# Altium schematic symbol library Super_Hornet.SchLib: 120 symbols (part 4 of 5)
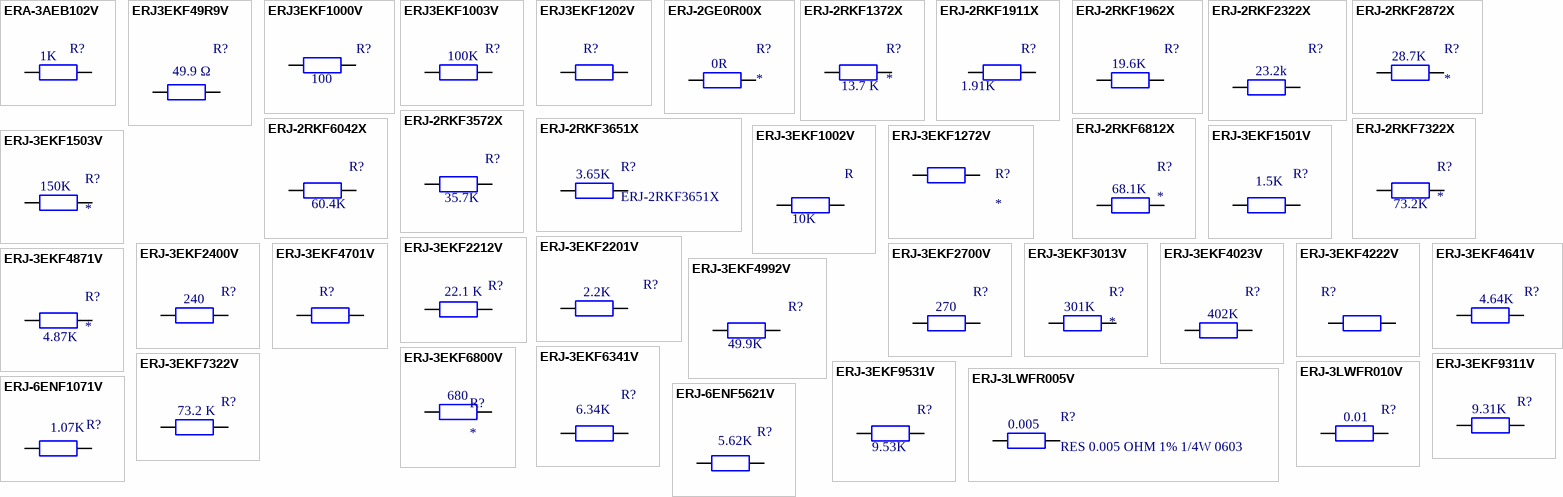
[diagram p9: symbols ERA-3AEB102V to ERJ-6ENF5621V]

## ERJ-3EKF7322V
designator R?, comment Resistance: 73.2 K  (hidden comment: RES SMD 73.2K OHM 1% 1/10W 0603)
Manufacturer: Panasonic; Manufacturer Part Number: ERJ-3EKF7322V; Rated Power: 0.1 W; Temp Coefficient: ±100 ppm/°C; Supplier 1: Digi-Key; Stock 1: 333532; Pricing 1: 1=0.1, 10=0.052, 100=0.0214, 1000=0.0096, 2500=0.0083 (USD); Size Code: 0603; Tolerance (%): ±1 %; ComponentLink1URL: http://industrial.panasonic.com/www-data/pdf/AOA0000/AOA0000CE2.pdf?src-supplier=Avnet; ComponentLink1Description: http://industrial.panasonic.com/www-data/pdf/AOA0000/AOA0000CE2.pdf?src-supplier=Avnet; ComponentLink2URL: https://www.alliedelec.com/m/d/623f45ff1957d936ff56d46fd1c28cac.pdf?src-supplier=Allied+Electronics; ComponentLink2Description: https://www.alliedelec.com/m/d/623f45ff1957d936ff56d46fd1c28cac.pdf?src-supplier=Allied+Electronics; ComponentLink3URL: http://www.farnell.com/datasheets/1911175.pdf?src-supplier=Element14; ComponentLink3Description: http://www.farnell.com/datasheets/1911175.pdf?src-supplier=Element14; ComponentLink4URL: http://industrial.panasonic.com/www-data/pdf/AOA0000/AOA0000CE2.pdf?src-supplier=Avnet+Europe; ComponentLink4Description: http://industrial.panasonic.com/www-data/pdf/AOA0000/AOA0000CE2.pdf?src-supplier=Avnet+Europe; ComponentLink5URL: http://www.mouser.com/ds/2/315/AOA0000C283-1093288.pdf?src-supplier=Mouser; ComponentLink5Description: http://www.mouser.com/ds/2/315/AOA0000C283-1093288.pdf?src-supplier=Mouser; ComponentLink6URL: https://www.verical.com/server-webapp/html/getDatasheet?partID=248021&src-supplier=Verical; ComponentLink6Description: https://www.verical.com/server-webapp/html/getDatasheet?partID=248021&src-supplier=Verical; ComponentLink7URL: http://industrial.panasonic.com/www-data/pdf/AOA0000/AOA0000CE2.pdf?src-supplier=Future+Electronics; ComponentLink7Description: http://industrial.panasonic.com/www-data/pdf/AOA0000/AOA0000CE2.pdf?src-supplier=Future+Electronics; Supplier Part Number 1: P73.2KHCT-ND
footprint R0603
pins: 1, 2

## ERJ-3EKF9311V
designator R?  Resistance: 9.31K  (hidden comment: *)
RES SMD 9.31K OHM 1% 1/10W 0603; Manufacturer: Panasonic; Manufacturer Part Number: ERJ-3EKF9311V; Rated Power: 0.1 W; Temp Coefficient: ±100 ppm/°C; Supplier 1: Digi-Key; Stock 1: 98740; Pricing 1: 1=0.1, 10=0.062, 100=0.0253, 1000=0.0113, 2500=0.0098 (USD); Size Code: 0603; Tolerance (%): ±1 %; ComponentLink1URL: http://industrial.panasonic.com/www-data/pdf/AOA0000/AOA0000CE2.pdf?src-supplier=Avnet; ComponentLink1Description: http://industrial.panasonic.com/www-data/pdf/AOA0000/AOA0000CE2.pdf?src-supplier=Avnet; ComponentLink2URL: http://www.farnell.com/datasheets/1678782.pdf?src-supplier=Element14; ComponentLink2Description: http://www.farnell.com/datasheets/1678782.pdf?src-supplier=Element14; ComponentLink3URL: http://industrial.panasonic.com/www-data/pdf/AOA0000/AOA0000CE2.pdf?src-supplier=Future+Electronics; ComponentLink3Description: http://industrial.panasonic.com/www-data/pdf/AOA0000/AOA0000CE2.pdf?src-supplier=Future+Electronics; ComponentLink4URL: http://industrial.panasonic.com/www-data/pdf/AOA0000/AOA0000CE2.pdf?src-supplier=Avnet+Asia; ComponentLink4Description: http://industrial.panasonic.com/www-data/pdf/AOA0000/AOA0000CE2.pdf?src-supplier=Avnet+Asia; ComponentLink5URL: http://www.farnell.com/datasheets/1911175.pdf?src-supplier=Farnell; ComponentLink5Description: http://www.farnell.com/datasheets/1911175.pdf?src-supplier=Farnell; ComponentLink6URL: https://www.alliedelec.com/m/d/623f45ff1957d936ff56d46fd1c28cac.pdf?src-supplier=Allied+Electronics; ComponentLink6Description: https://www.alliedelec.com/m/d/623f45ff1957d936ff56d46fd1c28cac.pdf?src-supplier=Allied+Electronics; ComponentLink7URL: http://industrial.panasonic.com/www-data/pdf/AOA0000/AOA0000CE2.pdf?src-supplier=Avnet+Europe; ComponentLink7Description: http://industrial.panasonic.com/www-data/pdf/AOA0000/AOA0000CE2.pdf?src-supplier=Avnet+Europe; ComponentLink8URL: http://www.mouser.com/ds/2/315/AOA0000CE2-37512.pdf?src-supplier=Mouser; ComponentLink8Description: http://www.mouser.com/ds/2/315/AOA0000CE2-37512.pdf?src-supplier=Mouser; ComponentLink9URL: http://www.farnell.com/datasheets/1911175.pdf?src-supplier=Element14; ComponentLink9Description: http://www.farnell.com/datasheets/1911175.pdf?src-supplier=Element14; Supplier Part Number 1: P9.31KHCT-ND
footprint R0603
pins: 1, 2

## ERJ-3EKF9531V
designator R?  Resistance (Ohms): 9.53K  (hidden comment: *)
RES SMD 9.53K OHM 1% 1/10W 0603; Manufacturer: Panasonic; Manufacturer Part Number: ERJ-3EKF9531V; EDA / CAD Models: Download from Accelerated Designs; Power (Watts): 0.1W, 1/10W; Temperature Coefficient: ±100ppm/°C; Online Catalog: ERJ Series; Kits: RSM3H-ND  - RES KIT 1K-9.76K 1/10W 4800PCS; Other Names: ERJ-3EKF9531 ERJ3EKF9531 P9.53KHCT; Supplier 1: Digi-Key; Stock 1: 49914; Pricing 1: 1=0.1, 10=0.042, 100=0.0169, 1000=0.0076, 2500=0.0066 (USD); Standard Package: 1; Category: Resistors; Family: Chip Resistor - Surface Mount; Series: ERJ; Packaging: Cut Tape (CT); Tolerance: ±1%; Composition: Thick Film; Features: Automotive AEC-Q200; Operating Temperature: -55°C ~ 155°C; Package / Case: 0603 (1608 Metric); Supplier Device Package: 0603; Size / Dimension: 0.063" L x 0.031" W (1.60mm x 0.80mm); Height: 0.022" (0.55mm); Number of Terminations: 2; ComponentLink1URL: http://www.farnell.com/datasheets/1678782.pdf?src-supplier=Element14; ComponentLink1Description: http://www.farnell.com/datasheets/1678782.pdf?src-supplier=Element14; ComponentLink2URL: http://industrial.panasonic.com/www-data/pdf/AOA0000/AOA0000CE2.pdf?src-supplier=Avnet+Asia; ComponentLink2Description: http://industrial.panasonic.com/www-data/pdf/AOA0000/AOA0000CE2.pdf?src-supplier=Avnet+Asia; ComponentLink3URL: http://www.farnell.com/datasheets/426256.pdf?src-supplier=Element14; ComponentLink3Description: http://www.farnell.com/datasheets/426256.pdf?src-supplier=Element14; ComponentLink4URL: http://www.farnell.com/datasheets/1911175.pdf?src-supplier=Farnell; ComponentLink4Description: http://www.farnell.com/datasheets/1911175.pdf?src-supplier=Farnell; ComponentLink5URL: https://www.alliedelec.com/m/d/623f45ff1957d936ff56d46fd1c28cac.pdf?src-supplier=Allied+Electronics; ComponentLink5Description: https://www.alliedelec.com/m/d/623f45ff1957d936ff56d46fd1c28cac.pdf?src-supplier=Allied+Electronics; ComponentLink6URL: http://industrial.panasonic.com/www-data/pdf/AOA0000/AOA0000CE2.pdf?src-supplier=Avnet; ComponentLink6Description: http://industrial.panasonic.com/www-data/pdf/AOA0000/AOA0000CE2.pdf?src-supplier=Avnet; Supplier Part Number 1: P9.53KHCT-ND
footprint R0603
pins: 1, 2

## ERJ-3LWFR005V
designator R?, comment RES 0.005 OHM 1% 1/4W 0603  Resistance (Ohms): 0.005
Manufacturer: Panasonic; Manufacturer Part Number: ERJ-3LWFR005V; Power (Watts): 0.25W, 1/4W; Temperature Coefficient: 0/ +700ppm/°C; Supplier 1: Digi-Key; Stock 1: 76322; Pricing 1: 1=0.51, 10=0.39, 25=0.2964, 50=0.2202, 100=0.1638, 250=0.1384, 500=0.1186, 1000=0.0904 (USD); Category: Resistors; Family: Chip Resistor - Surface Mount; Series: ERJ; Packaging: Tape & Reel (TR); Tolerance: ±1%; Composition: Thick Film; Features: Automotive AEC-Q200, Current Sense; Operating Temperature: -55°C ~ 125°C; Package / Case: 0603 (1608 Metric); Supplier Device Package: 0603; Size / Dimension: 0.063" L x 0.031" W (1.60mm x 0.80mm); Height: 0.026" (0.65mm); Number of Terminations: 2; ComponentLink1URL: http://www.mouser.com/ds/2/315/AOA0000C295-1109214.pdf?src-supplier=Mouser; ComponentLink1Description: http://www.mouser.com/ds/2/315/AOA0000C295-1109214.pdf?src-supplier=Mouser; ComponentLink2URL: https://industrial.panasonic.com/cdbs/www-data/pdf/RDN0000/AOA0000C313.pdf?src-supplier=Digi-Key; ComponentLink2Description: https://industrial.panasonic.com/cdbs/www-data/pdf/RDN0000/AOA0000C313.pdf?src-supplier=Digi-Key; ComponentLink3URL: http://www.farnell.com/datasheets/2631545.pdf?src-supplier=Farnell; ComponentLink3Description: http://www.farnell.com/datasheets/2631545.pdf?src-supplier=Farnell; ComponentLink4URL: http://www.farnell.com/datasheets/2631545.pdf?src-supplier=Newark; ComponentLink4Description: http://www.farnell.com/datasheets/2631545.pdf?src-supplier=Newark; Supplier Part Number 1: P19182CT-ND
footprint R0603
pins: 1, 2

## ERJ-3LWFR010V
designator R?  Resistance (Ohms): 0.01  (hidden comment: *)
RES SMD 0.01 OHM 1% 1/4W 0603; Manufacturer: Panasonic; Manufacturer Part Number: ERJ-3LWFR010V; Power (Watts): 0.25W, 1/4W; Temperature Coefficient: 0/ +300ppm/°C; Supplier 1: Digi-Key; Stock 1: 48216; Pricing 1: 1=0.48, 10=0.371, 100=0.156, 1000=0.0861, 2500=0.0807 (USD); Category: Resistors; Family: Chip Resistor - Surface Mount; Series: ERJ; Packaging: Tape & Reel (TR); Tolerance: ±1%; Composition: Thick Film; Features: Automotive AEC-Q200, Current Sense; Operating Temperature: -55°C ~ 125°C; Package / Case: 0603 (1608 Metric); Supplier Device Package: 0603; Size / Dimension: 0.063" L x 0.031" W (1.60mm x 0.80mm); Height: 0.026" (0.65mm); Number of Terminations: 2; ComponentLink1URL: https://industrial.panasonic.com/cdbs/www-data/pdf/RDN0000/AOA0000C313.pdf?src-supplier=Digi-Key; ComponentLink1Description: https://industrial.panasonic.com/cdbs/www-data/pdf/RDN0000/AOA0000C313.pdf?src-supplier=Digi-Key; ComponentLink2URL: http://industrial.panasonic.com/lecs/www-data/pdf/AOA0000/AOA0000CE3.pdf?src-supplier=Digi-Key; ComponentLink2Description: http://industrial.panasonic.com/lecs/www-data/pdf/AOA0000/AOA0000CE3.pdf?src-supplier=Digi-Key; ComponentLink3URL: http://www.mouser.com/ds/2/315/AOA0000C295-1109214.pdf?src-supplier=Mouser; ComponentLink3Description: http://www.mouser.com/ds/2/315/AOA0000C295-1109214.pdf?src-supplier=Mouser; Supplier Part Number 1: P19180CT-ND
footprint R0603
pins: 1, 2

## ERJ-6ENF1071V
designator R?  Resistance (Ohms): 1.07K  (hidden comment: *)
RES SMD 1.07K OHM 1% 1/8W 0805; Manufacturer: Panasonic; Manufacturer Part Number: ERJ-6ENF1071V; EDA / CAD Models: Download from Accelerated Designs; Power (Watts): 0.125W, 1/8W; Temperature Coefficient: ±100ppm/°C; Online Catalog: ERJ Series; Kits: RSM3CA-ND  - RES KIT 1K-9.76K 1/8W 4800PCS RSM3C-ND  - RES KIT 1K-9.76K 1/8W 19200PCS; Other Names: ERJ-6ENF1071 ERJ6ENF1071 P1.07KCBK P1.07KCCT; Supplier 1: Digi-Key; Stock 1: 40812; Pricing 1: 1=0.1, 10=0.072, 100=0.0275, 1000=0.0121, 2500=0.0105 (USD); Standard Package: 1; Category: Resistors; Family: Chip Resistor - Surface Mount; Series: ERJ; Packaging: Cut Tape (CT); Tolerance: ±1%; Composition: Thick Film; Features: Automotive AEC-Q200; Operating Temperature: -55°C ~ 155°C; Package / Case: 0805 (2012 Metric); Supplier Device Package: 0805; Size / Dimension: 0.079" L x 0.049" W (2.00mm x 1.25mm); Height: 0.028" (0.70mm); Number of Terminations: 2; ComponentLink1URL: http://industrial.panasonic.com/www-data/pdf/AOA0000/AOA0000CE2.pdf?src-supplier=Avnet; ComponentLink1Description: http://industrial.panasonic.com/www-data/pdf/AOA0000/AOA0000CE2.pdf?src-supplier=Avnet; ComponentLink2URL: http://www.mouser.com/ds/2/315/AOA0000C283-1093288.pdf?src-supplier=Mouser; ComponentLink2Description: http://www.mouser.com/ds/2/315/AOA0000C283-1093288.pdf?src-supplier=Mouser; Supplier Part Number 1: P1.07KCCT-ND
footprint R0805
pins: 1, 2

## ERJ-6ENF5621V
designator R?  Resistance: 5.62K  (hidden comment: *)
RES SMD 5.62K OHM 1% 1/8W 0805; Manufacturer: Panasonic; Manufacturer Part Number: ERJ-6ENF5621V; Resistor Element Type: Thick Film; Product Range: PANASONIC - ERJ Series; Power Rating: 125mW; Resistor Case Style: 0805 [2012 Metric]; Temperature Coefficient: ± 100ppm/°C; Voltage Rating: 150V; SVHC: Diboron trioxide (19-Dec-2012); SVHC (Secondary): Lead monoxide (lead oxide) (19-Dec-2012); Supplier 1: Digi-Key; Stock 1: 24844; Pricing 1: 1=0.1, 10=0.072, 100=0.0275, 1000=0.0121, 2500=0.0105 (USD); Resistance Tolerance: ± 1%; Resistor Element Material: Thick Film; Packaging: Cut Tape; MSL: (Not Applicable); Resistor Mounting: SMD; ComponentLink1URL: http://industrial.panasonic.com/www-data/pdf/AOA0000/AOA0000CE2.pdf?src-supplier=Avnet; ComponentLink1Description: http://industrial.panasonic.com/www-data/pdf/AOA0000/AOA0000CE2.pdf?src-supplier=Avnet; ComponentLink2URL: http://www.farnell.com/datasheets/426256.pdf?src-supplier=Element14; ComponentLink2Description: http://www.farnell.com/datasheets/426256.pdf?src-supplier=Element14; ComponentLink3URL: http://www.farnell.com/datasheets/1911175.pdf?src-supplier=Farnell; ComponentLink3Description: http://www.farnell.com/datasheets/1911175.pdf?src-supplier=Farnell; ComponentLink4URL: http://industrial.panasonic.com/www-data/pdf/AOA0000/AOA0000CE2.pdf?src-supplier=Avnet+Europe; ComponentLink4Description: http://industrial.panasonic.com/www-data/pdf/AOA0000/AOA0000CE2.pdf?src-supplier=Avnet+Europe; ComponentLink5URL: http://www.farnell.com/datasheets/1678782.pdf?src-supplier=Element14; ComponentLink5Description: http://www.farnell.com/datasheets/1678782.pdf?src-supplier=Element14; Supplier Part Number 1: P5.62KCCT-ND
footprint R0805
pins: 1, 2

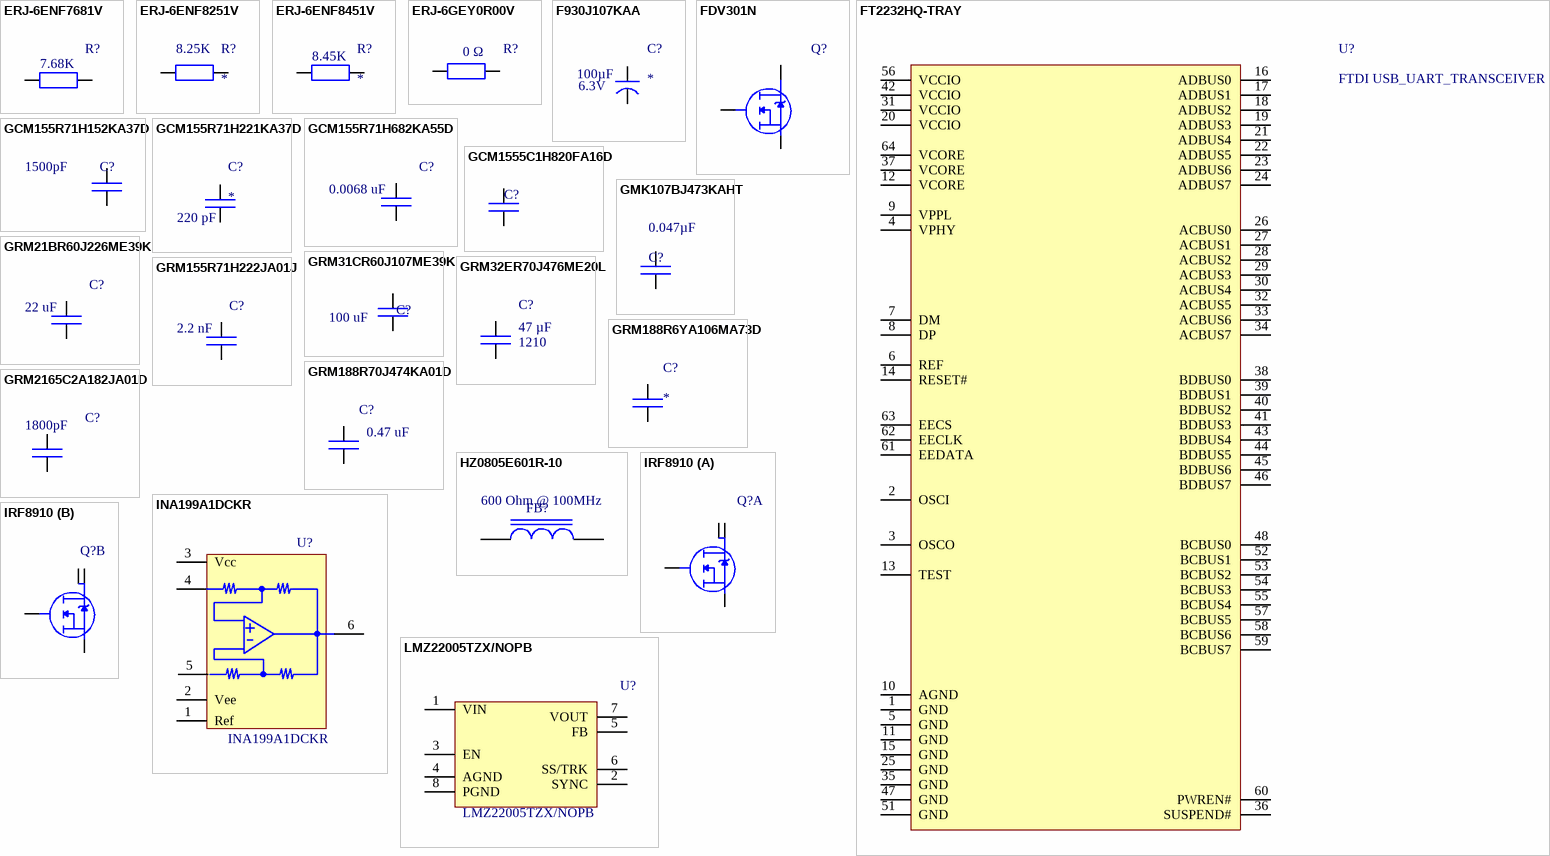
[diagram p2: symbols ERJ-6ENF7681V to LMZ22005TZX/NOPB]

## ERJ-6ENF7681V
designator R?  Resistance (Ohms): 7.68K  (hidden comment: *)
RES SMD 7.68K OHM 1% 1/8W 0805; Manufacturer: Panasonic; Manufacturer Part Number: ERJ-6ENF7681V; EDA / CAD Models: Download from Accelerated Designs; Power (Watts): 0.125W, 1/8W; Temperature Coefficient: ±100ppm/°C; Online Catalog: ERJ Series; Kits: RSM3CA-ND  - RES KIT 1K-9.76K 1/8W 4800PCS RSM3C-ND  - RES KIT 1K-9.76K 1/8W 19200PCS; Other Names: ERJ-6ENF7681 ERJ6ENF7681 P7.68KCBK P7.68KCCT; Supplier 1: Digi-Key; Stock 1: 41002; Pricing 1: 1=0.1, 10=0.072, 100=0.0275, 1000=0.0121, 2500=0.0105 (USD); Standard Package: 1; Category: Resistors; Family: Chip Resistor - Surface Mount; Series: ERJ; Packaging: Cut Tape (CT); Tolerance: ±1%; Composition: Thick Film; Features: Automotive AEC-Q200; Operating Temperature: -55°C ~ 155°C; Package / Case: 0805 (2012 Metric); Supplier Device Package: 0805; Size / Dimension: 0.079" L x 0.049" W (2.00mm x 1.25mm); Height: 0.028" (0.70mm); Number of Terminations: 2; ComponentLink1URL: http://www.mouser.com/ds/2/315/AOA0000C283-1093288.pdf?src-supplier=Mouser; ComponentLink1Description: http://www.mouser.com/ds/2/315/AOA0000C283-1093288.pdf?src-supplier=Mouser; ComponentLink2URL: https://www.alliedelec.com/m/d/623f45ff1957d936ff56d46fd1c28cac.pdf?src-supplier=Allied+Electronics; ComponentLink2Description: https://www.alliedelec.com/m/d/623f45ff1957d936ff56d46fd1c28cac.pdf?src-supplier=Allied+Electronics; ComponentLink3URL: http://www.farnell.com/datasheets/1678782.pdf?src-supplier=Farnell; ComponentLink3Description: http://www.farnell.com/datasheets/1678782.pdf?src-supplier=Farnell; ComponentLink4URL: http://industrial.panasonic.com/www-data/pdf/AOA0000/AOA0000CE2.pdf?src-supplier=Avnet; ComponentLink4Description: http://industrial.panasonic.com/www-data/pdf/AOA0000/AOA0000CE2.pdf?src-supplier=Avnet; ComponentLink5URL: http://www.farnell.com/datasheets/1694929.pdf?src-supplier=Element14; ComponentLink5Description: http://www.farnell.com/datasheets/1694929.pdf?src-supplier=Element14; Supplier Part Number 1: P7.68KCCT-ND
footprint R0805
pins: 1, 2

## ERJ-6ENF8251V
designator R?  Resistance: 8.25K
RES SMD 8.25K OHM 1% 1/8W 0805; Manufacturer: Panasonic; Manufacturer Part Number: ERJ-6ENF8251V; Resistor Element Type: Thick Film; Temperature Coefficient: ± 100ppm/°C; Voltage Rating: 150V; SVHC: To Be Advised; Product Range: PANASONIC - ERJ Series Thick Film Chip Resistors; Power Rating: 125mW; Resistor Case Style: 0805 ^2012 Metric]; Supplier 1: Digi-Key; Stock 1: 31520; Pricing 1: 1=0.1, 10=0.072, 100=0.0275, 1000=0.0121, 2500=0.0105 (USD); Packaging: Full Reel; Resistance Tolerance: ± 1%; ComponentLink1URL: http://industrial.panasonic.com/www-data/pdf/AOA0000/AOA0000CE2.pdf?src-supplier=Avnet+Europe; ComponentLink1Description: http://industrial.panasonic.com/www-data/pdf/AOA0000/AOA0000CE2.pdf?src-supplier=Avnet+Europe; ComponentLink2URL: http://www.jameco.com/Jameco/Products/ProdDS/1989586.pdf?src-supplier=Jameco; ComponentLink2Description: http://www.jameco.com/Jameco/Products/ProdDS/1989586.pdf?src-supplier=Jameco; ComponentLink3URL: http://www.farnell.com/datasheets/426256.pdf?src-supplier=Element14; ComponentLink3Description: http://www.farnell.com/datasheets/426256.pdf?src-supplier=Element14; ComponentLink4URL: https://www.verical.com/server-webapp/html/getDatasheet?partID=29070&src-supplier=Verical; ComponentLink4Description: https://www.verical.com/server-webapp/html/getDatasheet?partID=29070&src-supplier=Verical; ComponentLink5URL: http://www.farnell.com/datasheets/1678782.pdf?src-supplier=Element14; ComponentLink5Description: http://www.farnell.com/datasheets/1678782.pdf?src-supplier=Element14; ComponentLink6URL: http://www.farnell.com/datasheets/1911175.pdf?src-supplier=Farnell; ComponentLink6Description: http://www.farnell.com/datasheets/1911175.pdf?src-supplier=Farnell; ComponentLink7URL: http://industrial.panasonic.com/cdbs/www-data/pdf/RDA0000/AOA0000C304.pdf?src-supplier=Farnell; ComponentLink7Description: http://industrial.panasonic.com/cdbs/www-data/pdf/RDA0000/AOA0000C304.pdf?src-supplier=Farnell; Supplier Part Number 1: P8.25KCCT-ND
footprint R0805
pins: 1, 2

## ERJ-6ENF8451V
designator R?  Resistance: 8.45K
RES SMD 8.45K OHM 1% 1/8W 0805; Manufacturer: Panasonic; Manufacturer Part Number: ERJ-6ENF8451V; Temperature Coefficient: ± 100ppm/°C; Voltage Rating: 150V; SVHC: To Be Advised; Product Range: PANASONIC - ERJ Series; Power Rating: 125mW; Resistor Case Style: 0805 ^2012 Metric]; Resistor Element Type: Thick Film; Supplier 1: Digi-Key; Stock 1: 16020; Pricing 1: 1=0.1, 10=0.072, 100=0.0275, 1000=0.0121, 2500=0.0105 (USD); Packaging: Full Reel; Resistance Tolerance: ± 1%; ComponentLink1URL: http://www.mouser.com/ds/2/315/AOA0000CE2-37512.pdf?src-supplier=Mouser; ComponentLink1Description: http://www.mouser.com/ds/2/315/AOA0000CE2-37512.pdf?src-supplier=Mouser; ComponentLink2URL: https://www.alliedelec.com/m/d/623f45ff1957d936ff56d46fd1c28cac.pdf?src-supplier=Allied+Electronics; ComponentLink2Description: https://www.alliedelec.com/m/d/623f45ff1957d936ff56d46fd1c28cac.pdf?src-supplier=Allied+Electronics; ComponentLink3URL: http://components.arrow.com/part/dataview/3985858S182954N1386?src-supplier=Arrow; ComponentLink3Description: http://components.arrow.com/part/dataview/3985858S182954N1386?src-supplier=Arrow; Supplier Part Number 1: P8.45KCCT-ND
footprint R0805
pins: 1, 2

## ERJ-6GEY0R00V
designator R?  Resistance: 0 Ω  (hidden comment: *)
RES SMD 0 OHM JUMPER 1/8W 0805; Manufacturer: Panasonic; Manufacturer Part Number: ERJ-6GEY0R00V; Rated Power: 0.125 W; Rated Current: 2 A; No. of Terminations: 2; Supplier 1: Digi-Key; Stock 1: 1318594; Pricing 1: 1=0.1, 10=0.054, 25=0.0392, 50=0.03, 100=0.0221, 250=0.0168, 500=0.0135, 1000=0.0099 (USD); Technology: Thick Film; Operating Temp Range: -55 to +155 °C; Case Size: 0805 (2012 Metric); Dimension: 2 x 1.25 mm; Height - Max: 0.7 mm; ComponentLink1URL: http://www.farnell.com/datasheets/1678796.pdf?src-supplier=Element14; ComponentLink1Description: http://www.farnell.com/datasheets/1678796.pdf?src-supplier=Element14; ComponentLink2URL: http://industrial.panasonic.com/cdbs/www-data/pdf/RDA0000/AOA0000C301.pdf?src-supplier=Farnell; ComponentLink2Description: http://industrial.panasonic.com/cdbs/www-data/pdf/RDA0000/AOA0000C301.pdf?src-supplier=Farnell; ComponentLink3URL: http://industrial.panasonic.com/www-data/pdf/AOA0000/AOA0000CE1.pdf?src-supplier=Avnet; ComponentLink3Description: http://industrial.panasonic.com/www-data/pdf/AOA0000/AOA0000CE1.pdf?src-supplier=Avnet; ComponentLink4URL: http://industrial.panasonic.com/www-cgi/jvcr13pz.cgi?E+PZ+3+AOA0001+ERJ6GEY0R00V+7+WW?src-supplier=Jameco; ComponentLink4Description: http://industrial.panasonic.com/www-cgi/jvcr13pz.cgi?E+PZ+3+AOA0001+ERJ6GEY0R00V+7+WW?src-supplier=Jameco; ComponentLink5URL: http://industrial.panasonic.com/www-data/pdf/AOA0000/AOA0000CE1.pdf?src-supplier=Avnet+Europe; ComponentLink5Description: http://industrial.panasonic.com/www-data/pdf/AOA0000/AOA0000CE1.pdf?src-supplier=Avnet+Europe; ComponentLink6URL: http://industrial.panasonic.com/www-data/pdf/AOA0000/AOA0000CE1.pdf?src-supplier=Avnet+Asia; ComponentLink6Description: http://industrial.panasonic.com/www-data/pdf/AOA0000/AOA0000CE1.pdf?src-supplier=Avnet+Asia; Supplier Part Number 1: P0.0ACT-ND
footprint R0805
pins: 1, 2

## F930J107KAA
designator C?  Capacitance: 100µF  Voltage - Rated: 6.3V
CAP TANT 100UF 6.3V 10% 1206; Manufacturer: Kyocera AVX; Manufacturer Part Number: F930J107KAA; Manufacturer Size Code: A; Categories: Capacitors; Type: Molded; ESR (Equivalent Series Resistance): 2 Ohm @ 100kHz; Lifetime @ Temp.: 2000 Hrs @ 125°C; Supplier 1: Digi-Key; Stock 1: 12841; Pricing 1: 1=0.65, 10=0.477, 100=0.3268, 500=0.2587, 1000=0.2179 (USD); Series: F93; Packaging: Digi-Reel®; Part Status: Active; Tolerance: ±10%; Operating Temperature: -55°C ~ 125°C; Mounting Type: Surface Mount; Package / Case: 1206 (3216 Metric); Size / Dimension: 0.126 L x 0.063 W (3.20mm x 1.60mm); Height - Seated (Max): 0.071 (1.80mm); Lead Spacing: -; Features: General Purpose; Failure Rate: -; Supplier Part Number 1: 478-8152-1-ND
footprint C1206 - TANT
pins: 1, 2

## FDV301N
designator Q?  (value not drawn)
MOSFET N-CH 25V 220MA SOT-23; Manufacturer: ON Semiconductor / Fairchild; Manufacturer Part Number: FDV301N; Transistor Polarity: N Channel; On Resistance Rds(on): 5ohm; Rds(on) Test Voltage Vgs: 2.7V; Threshold Voltage Vgs Typ: 850mV; Power Dissipation Pd: 350mW; No. of Pins: 3; SVHC: No SVHC (19-Dec-2012); Current Temperature: 25°C; ESD HBM: 6kV; External Depth: 2.5mm; External Length / Height: 1.12mm; External Width: 3.05mm; No. of Transistors: 1; Pulse Current Idm: 500mA; Reel Quantity: 3000; SMD Marking: 301; Voltage Vgs Rds on Measurement: 4.5V; Voltage Vgs th Max: 1.5V; Supplier 1: Digi-Key; Stock 1: 1540567; Pricing 1: 1=0.23, 10=0.189, 25=0.1584, 100=0.0774, 250=0.0762, 500=0.0646, 1000=0.0449 (USD); Continuous Drain Current Id: 220mA; Drain Source Voltage Vds: 25V; Operating Temperature Min: -55°C; Operating Temperature Max: 150°C; Transistor Case Style: SOT-23; Current Id Max: 220mA; Full Power Rating Temperature: 25°C; Operating Temperature Range: -55°C to +150°C; Package / Case: SOT-23; Tape Width: 8mm; Termination Type: SMD; Voltage Vds Typ: 25V; Voltage Vgs Max: 850mV; ComponentLink1URL: http://www.mouser.com/ds/2/149/FDV301N-52768.pdf?src-supplier=Mouser; ComponentLink1Description: http://www.mouser.com/ds/2/149/FDV301N-52768.pdf?src-supplier=Mouser; ComponentLink2URL: https://media.digikey.com/pdf/Data%20Sheets/Fairchild%20PDFs/FDV301N.pdf?src-supplier=Digi-Key; ComponentLink2Description: https://media.digikey.com/pdf/Data%20Sheets/Fairchild%20PDFs/FDV301N.pdf?src-supplier=Digi-Key; ComponentLink3URL: http://www.farnell.com/datasheets/2304439.pdf?src-supplier=Element14; ComponentLink3Description: http://www.farnell.com/datasheets/2304439.pdf?src-supplier=Element14; ComponentLink4URL: http://www.fairchildsemi.com/ds/FD/FDV301N.pdf?src-supplier=Avnet+Europe; ComponentLink4Description: http://www.fairchildsemi.com/ds/FD/FDV301N.pdf?src-supplier=Avnet+Europe; ComponentLink5URL: https://www.verical.com/server-webapp/html/getDatasheet?partID=90621&src-supplier=Verical; ComponentLink5Description: https://www.verical.com/server-webapp/html/getDatasheet?partID=90621&src-supplier=Verical; Supplier Part Number 1: FDV301NCT-ND
footprint SOT-23-3
pins: 1 G1, 2 S1, 3 D1

## FT2232HQ-TRAY
designator U?, comment FTDI USB_UART_TRANSCEIVER
FTDI USB TRANSCEIVER; Manufacturer Part Number: FT2232HQ-TRAY; Number of Channels: 2; Interface Circuit Standard 1: RS-232/RS-422/RS-485; Transmitter and Receiver FIFO Counter: No; Data Rate: 480Mbps; Operating Supply Voltage (Typ): 1.8/3.3V; Operating Supply Voltage (Max): 3.63V; Operating Supply Voltage (Min): 1.62V; Supply Current: 70(Typ)mA; Supplier 1: Digi-Key; Manufacturer: FTDI; Stock 1: 1210; Pricing 1: 1=6.71, 10=6.2, 50=5.77, 100=5.4, 250=4.625 (USD); Package Type: QFN EP; Packaging: Tray; Mounting: Surface Mount; Pin Count: 64; Operating Temperature (Min): -40C; Operating Temperature (Max): 85C; Operating Temperature Classification: Industrial; ComponentLink1URL: http://www.ftdichip.com/Support/Documents/DataSheets/ICs/DS_FT2232H.pdf?src-supplier=Digi-Key; ComponentLink1Description: http://www.ftdichip.com/Support/Documents/DataSheets/ICs/DS_FT2232H.pdf?src-supplier=Digi-Key; Supplier Part Number 1: 768-1346-ND
footprint QFN64_2_L (QFN, 64-Leads, Body 9x9mm, Pitch 0.5mm, Thermal Pad 4.5x4.5mm, IPC High Density)
pins: 1 GND, 2 OSCI, 3 OSCO, 4 VPHY, 5 GND, 6 REF, 7 DM, 8 DP, 9 VPPL, 10 AGND, 11 GND, 12 VCORE, 13 TEST, 14 RESET#, 15 GND, 16 ADBUS0, 17 ADBUS1, 18 ADBUS2, 19 ADBUS3, 20 VCCIO, 21 ADBUS4, 22 ADBUS5, 23 ADBUS6, 24 ADBUS7, 25 GND, 26 ACBUS0, 27 ACBUS1, 28 ACBUS2, 29 ACBUS3, 30 ACBUS4, 31 VCCIO, 32 ACBUS5, 33 ACBUS6, 34 ACBUS7, 35 GND, 36 SUSPEND#, 37 VCORE, 38 BDBUS0, 39 BDBUS1, 40 BDBUS2, 41 BDBUS3, 42 VCCIO, 43 BDBUS4, 44 BDBUS5, 45 BDBUS6, 46 BDBUS7, 47 GND, 48 BCBUS0, 51 GND, 52 BCBUS1, 53 BCBUS2, 54 BCBUS3, 55 BCBUS4, 56 VCCIO, 57 BCBUS5, 58 BCBUS6, 59 BCBUS7, 60 PWREN#, 61 EEDATA, 62 EECLK, 63 EECS, 64 VCORE

## GCM155R71H152KA37D
designator C?  Capacitance: 1500pF  (hidden comment: *)
CAP CER 1500PF 50V X7R 0402; Manufacturer: Murata; Manufacturer Part Number: GCM155R71H152KA37D; Catalog Drawings: GCM Series_0402; Featured Product: GCM Series Capacitors; Tolerance: ±10%; Dynamic Catalog: GCM Series; Other Names: 490-8000-6; Supplier 1: Digi-Key; Stock 1: 36934; Pricing 1: 1=0.1, 10=0.045, 100=0.0202, 500=0.0144, 1000=0.0113, 2500=0.0103, 5000=0.0095 (USD); Standard Package: 1; Category: Capacitors; Family: Ceramic Capacitors; Series: GCM; Packaging: Digi-Reel®; Voltage - Rated: 50V; Temperature Coefficient: X7R; Mounting Type: Surface Mount, MLCC; Operating Temperature: -55°C ~ 125°C; Applications: Automotive; Ratings: AEC-Q200; Package / Case: 0402 (1005 Metric); Size / Dimension: 0.039" L x 0.020" W (1.00mm x 0.50mm); Height - Seated (Max): -; Thickness (Max): 0.022" (0.55mm); Lead Spacing: -; Features: -; Lead Style: -; ComponentLink1URL: http://psearch.murata.com/capacitor/product/GCM155R71H152KA37%23.pdf?src-supplier=Avnet+Europe; ComponentLink1Description: http://psearch.murata.com/capacitor/product/GCM155R71H152KA37%23.pdf?src-supplier=Avnet+Europe; ComponentLink2URL: http://www.murata.com/~/media/webrenewal/support/library/catalog/products/capacitor/mlcc/c03e.ashx?src-supplier=Digi-Key; ComponentLink2Description: http://www.murata.com/~/media/webrenewal/support/library/catalog/products/capacitor/mlcc/c03e.ashx?src-supplier=Digi-Key; ComponentLink3URL: http://psearch.murata.com/capacitor/product/GCM155R71H152KA37%23.pdf?src-supplier=Avnet; ComponentLink3Description: http://psearch.murata.com/capacitor/product/GCM155R71H152KA37%23.pdf?src-supplier=Avnet; ComponentLink4URL: http://search.murata.co.jp/Ceramy/image/img/A01X/partnumbering_e_02.pdf?src-supplier=Digi-Key; ComponentLink4Description: http://search.murata.co.jp/Ceramy/image/img/A01X/partnumbering_e_02.pdf?src-supplier=Digi-Key; ComponentLink5URL: http://search.murata.co.jp/Ceramy/image/img/w_hinm/S0717E.pdf?src-supplier=Future+Electronics; ComponentLink5Description: http://search.murata.co.jp/Ceramy/image/img/w_hinm/S0717E.pdf?src-supplier=Future+Electronics; ComponentLink6URL: https://www.verical.com/server-webapp/html/getDatasheet?partID=724076&src-supplier=Verical; ComponentLink6Description: https://www.verical.com/server-webapp/html/getDatasheet?partID=724076&src-supplier=Verical; Supplier Part Number 1: 490-8000-1-ND
footprint R0402
pins: 1, 2

## GCM155R71H221KA37D
designator C?  Capacitance Value: 220 pF
CAP CER 220PF 50V X7R 0402; Manufacturer: Murata; Manufacturer Part Number: GCM155R71H221KA37D; Rad Hard: No; Product Depth: 0.5 mm; Voltage: 50 Vdc; Tolerance: 10 %; Product Length: 1 mm; Supplier 1: Digi-Key; Stock 1: 139362; Pricing 1: 1=0.1, 10=0.054, 100=0.0241, 500=0.0172, 1000=0.0135, 2500=0.0123, 5000=0.0113 (USD); Packaging: Tape & Reel; Package/Case: 0402; Mounting: Surface Mount; Dielectric: X7R; Operating Temperature: -55 to 125 °C; Construction: Flat; Product Height: 0.5 mm; Category: Capacitor Ceramic Multilayer; ComponentLink1URL: http://psearch.murata.com/capacitor/product/GCM155R71H221KA37%23.pdf?src-supplier=Avnet+Europe; ComponentLink1Description: http://psearch.murata.com/capacitor/product/GCM155R71H221KA37%23.pdf?src-supplier=Avnet+Europe; ComponentLink2URL: http://search.murata.co.jp/Ceramy/image/img/A01X/partnumbering_e_02.pdf?src-supplier=Digi-Key; ComponentLink2Description: http://search.murata.co.jp/Ceramy/image/img/A01X/partnumbering_e_02.pdf?src-supplier=Digi-Key; ComponentLink3URL: https://www.murata.com/~/media/webrenewal/support/library/catalog/products/capacitor/mlcc/c03e.ashx?src-supplier=Avnet; ComponentLink3Description: https://www.murata.com/~/media/webrenewal/support/library/catalog/products/capacitor/mlcc/c03e.ashx?src-supplier=Avnet; Supplier Part Number 1: 490-4912-1-ND
footprint R0402
pins: 1, 2

## GCM155R71H682KA55D
designator C?  Capacitance Value: 0.0068 uF  (hidden comment: *)
CAP CER 6800PF 50V X7R 0402; Manufacturer: Murata; Manufacturer Part Number: GCM155R71H682KA55D; Rad Hard: No; Product Depth: 0.5 mm; Voltage: 50 Vdc; Tolerance: 10 %; Product Length: 1 mm; Supplier 1: Digi-Key; Stock 1: 79110; Pricing 1: 1=0.1, 10=0.05, 100=0.0221, 500=0.0158, 1000=0.0124, 2500=0.0113, 5000=0.0104 (USD); Packaging: Tape & Reel; Package/Case: 0402; Mounting: Surface Mount; Dielectric: X7R; Operating Temperature: -55 to 125 °C; Construction: Flat; Product Height: 0.5 mm; Category: Capacitor Ceramic Multilayer; ComponentLink1URL: http://search.murata.co.jp/Ceramy/image/img/w_hinm/S0717E.pdf?src-supplier=Digi-Key; ComponentLink1Description: http://search.murata.co.jp/Ceramy/image/img/w_hinm/S0717E.pdf?src-supplier=Digi-Key; Supplier Part Number 1: 490-11152-1-ND
footprint R0402
pins: 1, 2

## GCM1555C1H820FA16D
designator C?  (value not drawn)
CAP CER 82PF 50V C0G/NP0 0402; Manufacturer: Murata; Manufacturer Part Number: GCM1555C1H820FA16D; Categories: Capacitors; Tolerance: ±1%; Temperature Coefficient: C0G, NP0; Supplier 1: Digi-Key; Stock 1: 81409; Pricing 1: 1=0.13, 10=0.095, 100=0.0445, 500=0.0312, 1000=0.0258, 2500=0.024, 5000=0.022 (USD); Series: GCM; Packaging: Digi-Reel®; Part Status: Active; Capacitance: 82pF; Voltage - Rated: 50V; Operating Temperature: -55°C ~ 125°C; Features: -; Ratings: AEC-Q200; Applications: Automotive; Failure Rate: -; Mounting Type: Surface Mount, MLCC; Package / Case: 0402 (1005 Metric); Size / Dimension: 0.039 L x 0.020 W (1.00mm x 0.50mm); Height - Seated (Max): -; Thickness (Max): 0.022 (0.55mm); Lead Spacing: -; Lead Style: -; ComponentLink1URL: http://search.murata.co.jp/Ceramy/image/img/A01X/G101/ENG/GCM1555C1H820FA16-01.pdf?src-supplier=Digi-Key; ComponentLink1Description: http://search.murata.co.jp/Ceramy/image/img/A01X/G101/ENG/GCM1555C1H820FA16-01.pdf?src-supplier=Digi-Key; Supplier Part Number 1: 490-16436-1-ND
footprint R0402
pins: 1, 2

## GMK107BJ473KAHT
designator C?  Minimum Quantity: 0.047µF  (hidden comment: *)
CAP CER 0.047UF 35V X5R 0603; Manufacturer: Taiyo Yuden; Manufacturer Part Number: GMK107BJ473KAHT; Unit PriceUSD: M; Dynamic Catalog: M Series; Featured Product: Multilayer Chip Capacitors; Tolerance: ±10%; Other Names: 587-3361-6; Supplier 1: Digi-Key; Stock 1: 7209; Pricing 1: 1=0.11, 10=0.079, 50=0.0446, 100=0.037, 500=0.0259, 1000=0.0215 (USD); Quantity Available: Digi-Reel®Alternate Packaging; Package/Case: 0603 (1608 Metric); Standard Package: 1; Category: Capacitors; Family: Ceramic Capacitors; Series: M; Packaging: Digi-Reel®; Capacitance: 0.047µF; Voltage - Rated: 35V; Temperature Coefficient: X5R; Mounting Type: Surface Mount, MLCC; Operating Temperature: -55°C ~ 85°C; Applications: Automotive; Ratings: AEC-Q200; Package / Case: 0603 (1608 Metric); Size / Dimension: 0.063" L x 0.031" W (1.60mm x 0.80mm); Thickness (Max): 0.035" (0.90mm); Online Catalog: M Series; ComponentLink1URL: https://www.yuden.co.jp/productdata/catalog/mlcc06_hq_e.pdf?src-supplier=Digi-Key; ComponentLink1Description: https://www.yuden.co.jp/productdata/catalog/mlcc06_hq_e.pdf?src-supplier=Digi-Key; ComponentLink2URL: http://ds.yuden.co.jp/TYCOMPAS/ut/detail.do?productNo=GMK107BJ473KAHT&fileName=GMK107BJ473KAHT_SS&mode=specSheetDownload&src-supplier=Digi-Key; ComponentLink2Description: http://ds.yuden.co.jp/TYCOMPAS/ut/detail.do?productNo=GMK107BJ473KAHT&fileName=GMK107BJ473KAHT_SS&mode=specSheetDownload&src-supplier=Digi-Key; Supplier Part Number 1: 587-3361-1-ND
footprint C0603_1
pins: 1, 2

## GRM21BR60J226ME39K
designator C?  Capacitance Value: 22 uF  (hidden comment: *)
CAP CER 22UF 6.3V X5R 0805; Manufacturer: Murata; Manufacturer Part Number: GRM21BR60J226ME39K; Rad Hard: No; Product Depth: 1.25 mm; Voltage: 6.3 Vdc; Tolerance: 20 %; Product Length: 2 mm; Supplier 1: Digi-Key; Stock 1: 32530; Pricing 1: 1=0.5, 10=0.347, 100=0.2082, 500=0.1561, 1000=0.1319, 2500=0.1249, 5000=0.118 (USD); Packaging: Tape & Reel; Package/Case: 0805; Mounting: Surface Mount; Dielectric: X5R; Operating Temperature: -55 to 85 °C; Construction: Flat; Product Height: 1.25 mm; Category: Capacitor Ceramic Multilayer; ComponentLink1URL: http://search.murata.co.jp/Ceramy/image/img/A01X/G101/ENG/GRM21BR60J226ME39-01.pdf?src-supplier=Digi-Key; ComponentLink1Description: http://search.murata.co.jp/Ceramy/image/img/A01X/G101/ENG/GRM21BR60J226ME39-01.pdf?src-supplier=Digi-Key; ComponentLink2URL: http://www.mouser.com/ds/2/281/c02e-2905.pdf?src-supplier=Mouser; ComponentLink2Description: http://www.mouser.com/ds/2/281/c02e-2905.pdf?src-supplier=Mouser; ComponentLink3URL: http://psearch.murata.com/capacitor/product/GRM21BR60J226ME39%23.pdf?src-supplier=Avnet; ComponentLink3Description: http://psearch.murata.com/capacitor/product/GRM21BR60J226ME39%23.pdf?src-supplier=Avnet; Supplier Part Number 1: 490-6471-1-ND
footprint C0805_1
pins: 1, 2

## GRM31CR60J107ME39K
designator C?  Capacitance Value: 100 uF  (hidden comment: *)
CAP CER 100UF 6.3V X5R 1206; Manufacturer: Murata; Manufacturer Part Number: GRM31CR60J107ME39K; Rad Hard: No; Product Depth: 1.6 mm; Voltage: 6.3 Vdc; Tolerance: 20 %; Product Length: 3.2 mm; Supplier 1: Digi-Key; Stock 1: 190642; Pricing 1: 1=1.08, 10=0.852, 100=0.6387, 500=0.4826, 1000=0.4258, 2500=0.3974 (USD); Packaging: Tape & Reel; Package/Case: 1206; Mounting: Surface Mount; Dielectric: X5R; Operating Temperature: -55 to 85 °C; Construction: Flat; Product Height: 1.6 mm; Category: Capacitor Ceramic Multilayer; ComponentLink1URL: http://www.mouser.com/ds/2/281/GRM31A7U2H471JW31-01-1064911.pdf?src-supplier=Mouser; ComponentLink1Description: http://www.mouser.com/ds/2/281/GRM31A7U2H471JW31-01-1064911.pdf?src-supplier=Mouser; ComponentLink2URL: https://www.murata.com/~/media/webrenewal/support/library/catalog/products/capacitor/mlcc/c02e.ashx?la=en-us&src-supplier=Digi-Key; ComponentLink2Description: https://www.murata.com/~/media/webrenewal/support/library/catalog/products/capacitor/mlcc/c02e.ashx?la=en-us&src-supplier=Digi-Key; Supplier Part Number 1: 490-7217-1-ND
footprint C1206
pins: 1, 2

## GRM32ER70J476ME20L
designator C?  Capacitance: 47 µF  Case Size/Dimension: 1210  (hidden comment: *)
CAP CER 47UF 6.3V X7R 1210; Manufacturer: Murata; Manufacturer Part Number: GRM32ER70J476ME20L; Tolerance (%): ±20 %; Supplier 1: Digi-Key; Stock 1: 2691; Pricing 1: 1=2.01, 10=1.626, 100=1.2419, 500=0.9462 (USD); Dielectric: X7R; Rated Voltage: 6.3 V; ComponentLink1URL: https://www.murata.com/~/media/webrenewal/support/library/catalog/products/capacitor/mlcc/c02e.ashx?la=en-us&src-supplier=Digi-Key; ComponentLink1Description: https://www.murata.com/~/media/webrenewal/support/library/catalog/products/capacitor/mlcc/c02e.ashx?la=en-us&src-supplier=Digi-Key; ComponentLink2URL: http://psearch.murata.com/capacitor/product/GRM32ER70J476ME20%23.pdf?src-supplier=Future+Electronics; ComponentLink2Description: http://psearch.murata.com/capacitor/product/GRM32ER70J476ME20%23.pdf?src-supplier=Future+Electronics; Supplier Part Number 1: 490-6542-1-ND
footprint C1210_1
pins: 1, 2

## GRM155R71H222JA01J
designator C?  Capacitance - nF: 2.2 nF  (hidden comment: *)
CAP CER 2200PF 50V X7R 0402; Manufacturer: Murata; Manufacturer Part Number: GRM155R71H222JA01J; Capacitance - uF: 0.0022 uF; Tolerance: 5 %; Brand: Murata Electronics; Case Height: 0.5 mm; Case Length: 1 mm; Temperature Coefficient / Code: +/- 15 %; Type: General Purpose MLCC; Supplier 1: Digi-Key; Stock 1: 278528; Pricing 1: 1=0.1, 10=0.039, 100=0.0174, 500=0.0124, 1000=0.0097, 2500=0.0089, 5000=0.0082 (USD); Dimensions: 0.5 mm W x 1 mm L x 0.5 mm H; Voltage Rating: 50 V; Product Category: Multilayer Ceramic Capacitors MLCC - SMD/SMT; RoHS: Details; Capacitance: 2200 pF; Voltage Rating DC: 50 V; Dielectric: X7R; Case Code - in: 0402; Case Code - mm: 1005; Minimum Operating Temperature: - 55 C; Maximum Operating Temperature: + 125 C; Product: General Type MLCCs; Case Width: 0.5 mm; Operating Temperature Range: - 55 C to + 125 C; Package / Case: 0402 (1005 metric); Packaging: Reel; Series: GRM; Factory Pack Quantity: 50000; Termination Style: SMD/SMT; ComponentLink1URL: https://www.murata.com/~/media/webrenewal/support/library/catalog/products/capacitor/mlcc/c02e.ashx?la=en-us&src-supplier=Digi-Key; ComponentLink1Description: https://www.murata.com/~/media/webrenewal/support/library/catalog/products/capacitor/mlcc/c02e.ashx?la=en-us&src-supplier=Digi-Key; ComponentLink2URL: http://www.mouser.com/ds/2/281/c02e-2905.pdf?src-supplier=Mouser; ComponentLink2Description: http://www.mouser.com/ds/2/281/c02e-2905.pdf?src-supplier=Mouser; Supplier Part Number 1: 490-6359-1-ND
footprint R0402
pins: 1, 2

## GRM188R6YA106MA73D
designator C?
CAP CER 10UF 35V X5R 0603; Manufacturer: Murata; Manufacturer Part Number: GRM188R6YA106MA73D; Capacitance: 10µF; Tolerance: ±20%; Supplier 1: Digi-Key; Stock 1: 122766; Pricing 1: 1=0.48, 10=0.331, 50=0.2316, 100=0.1986, 500=0.1489, 1000=0.1258 (USD); Category: Capacitors; Family: Ceramic Capacitors; Series: GRM; Packaging: Tape & Reel (TR); Voltage - Rated: 35V; Temperature Coefficient: X5R; Mounting Type: Surface Mount, MLCC; Operating Temperature: -55°C ~ 85°C; Applications: General Purpose; Ratings: -; Package / Case: 0603 (1608 Metric); Size / Dimension: 0.063" L x 0.031" W (1.60mm x 0.80mm); Height - Seated (Max): -; Thickness (Max): 0.039" (1.00mm); Lead Spacing: -; Features: Derating Recommended; Lead Style: -; ComponentLink1URL: http://search.murata.co.jp/Ceramy/image/img/A01X/G101/ENG/GRM188R6YA106MA73-01.pdf?src-supplier=Digi-Key; ComponentLink1Description: http://search.murata.co.jp/Ceramy/image/img/A01X/G101/ENG/GRM188R6YA106MA73-01.pdf?src-supplier=Digi-Key; ComponentLink2URL: http://search.murata.co.jp/Ceramy/image/img/A01X/G101/ENG/GRM188R6YA106MA73-01.pdf?src-supplier=Mouser; ComponentLink2Description: http://search.murata.co.jp/Ceramy/image/img/A01X/G101/ENG/GRM188R6YA106MA73-01.pdf?src-supplier=Mouser; ComponentLink3URL: https://www.murata.com/~/media/webrenewal/support/library/catalog/products/capacitor/mlcc/c02e.ashx?la=en-us&src-supplier=Digi-Key; ComponentLink3Description: https://www.murata.com/~/media/webrenewal/support/library/catalog/products/capacitor/mlcc/c02e.ashx?la=en-us&src-supplier=Digi-Key; ComponentLink4URL: http://search.murata.co.jp/Ceramy/image/img/A01X/G101/ENG/GRM188R6YA106MA73-01.pdf?src-supplier=Future+Electronics; ComponentLink4Description: http://search.murata.co.jp/Ceramy/image/img/A01X/G101/ENG/GRM188R6YA106MA73-01.pdf?src-supplier=Future+Electronics; ComponentLink5URL: http://search.murata.co.jp/Ceramy/image/img/A01X/G101/ENG/GRM188R6YA106MA73-01.pdf?src-supplier=TTI; ComponentLink5Description: http://search.murata.co.jp/Ceramy/image/img/A01X/G101/ENG/GRM188R6YA106MA73-01.pdf?src-supplier=TTI; Supplier Part Number 1: 490-13248-1-ND
footprint C0603_1
pins: 1, 2

## GRM188R70J474KA01D
designator C?  Capacitance: 0.47 uF  (hidden comment: *)
CAP CER 0.47UF 6.3V X7R 0603; Manufacturer: Murata; Manufacturer Part Number: GRM188R70J474KA01D; Voltage Rating DC: 6.3 VDC; Tolerance: 10 %; Brand: Murata Electronics; Case Height: 0.8 mm; Case Length: 1.6 mm; Type: General Purpose MLCC; Supplier 1: Digi-Key; Stock 1: 53423; Pricing 1: 1=0.19, 10=0.129, 100=0.0654, 500=0.0447, 1000=0.0396 (USD); Product Category: Multilayer Ceramic Capacitors MLCC - SMD/SMT; RoHS: Details; Dielectric: X7R; Case Code - mm: 1608; Minimum Operating Temperature: - 55 C; Maximum Operating Temperature: + 125 C; Termination Style: SMD/SMT; Product: General Type MLCCs; Case Width: 0.8 mm; Package / Case: 0603 (1608 metric); Packaging: Reel; Series: GRM; Factory Pack Quantity: 4000; ComponentLink1URL: https://www.murata.com/~/media/webrenewal/support/library/catalog/products/capacitor/mlcc/c02e.ashx?la=en-us&src-supplier=Digi-Key; ComponentLink1Description: https://www.murata.com/~/media/webrenewal/support/library/catalog/products/capacitor/mlcc/c02e.ashx?la=en-us&src-supplier=Digi-Key; ComponentLink2URL: http://psearch.murata.com/capacitor/product/GRM188R70J474KA01%23.pdf?src-supplier=Avnet; ComponentLink2Description: http://psearch.murata.com/capacitor/product/GRM188R70J474KA01%23.pdf?src-supplier=Avnet; Supplier Part Number 1: 490-6416-1-ND; Case Code - in: 0603
footprint C0603_1
pins: 1, 2

## GRM2165C2A182JA01D
designator C?  Capacitance: 1800pF  (hidden comment: *)
CAP CER 1800PF 100V C0G/NP0 0805; Manufacturer: Murata; Manufacturer Part Number: GRM2165C2A182JA01D; Catalog Drawings: GRM Series_0805_0.6; Tolerance: ±5%; Temperature Coefficient: C0G, NP0; Supplier 1: Digi-Key; Stock 1: 2422; Pricing 1: 1=0.19, 10=0.128, 100=0.0649, 500=0.0444, 1000=0.0393 (USD); Standard Package: 4,000; Category: Capacitors; Family: Ceramic Capacitors; Series: GRM; Packaging: Tape & Reel (TR); Voltage - Rated: 100V; Mounting Type: Surface Mount, MLCC; Operating Temperature: -55°C ~ 125°C; Applications: General Purpose; Ratings: -; Package / Case: 0805 (2012 Metric); Size / Dimension: 0.079" L x 0.049" W (2.00mm x 1.25mm); Height - Seated (Max): -; Thickness (Max): 0.028" (0.70mm); Lead Spacing: -; Features: -; Lead Style: -; ComponentLink1URL: http://search.murata.co.jp/Ceramy/image/img/A01X/partnumbering_e_01.pdf?src-supplier=Digi-Key; ComponentLink1Description: http://search.murata.co.jp/Ceramy/image/img/A01X/partnumbering_e_01.pdf?src-supplier=Digi-Key; ComponentLink2URL: http://psearch.murata.com/capacitor/product/GRM2165C2A182JA01%23.pdf?src-supplier=Avnet; ComponentLink2Description: http://psearch.murata.com/capacitor/product/GRM2165C2A182JA01%23.pdf?src-supplier=Avnet; ComponentLink3URL: http://www.mouser.com/ds/2/281/c02e-2905.pdf?src-supplier=Mouser; ComponentLink3Description: http://www.mouser.com/ds/2/281/c02e-2905.pdf?src-supplier=Mouser; Supplier Part Number 1: 490-13368-1-ND
footprint C0805_1
pins: 1, 2

## HZ0805E601R-10
designator FB?, comment Impedance @ Frequency: 600 Ohm @ 100MHz  (hidden comment: FERRITE BEAD 600 OHM 0805 1LN)
Manufacturer: Laird; Manufacturer Part Number: HZ0805E601R-10; Catalog Drawings: (HI,HZ,LI,MI)0805 Series_1.10mm Max. Height; Filter Type: Signal Line; Number of Lines: 1; Current Rating (Max): 500mA; DC Resistance (DCR) (Max): 300 mOhm; Online Catalog: HZ Series; Kits: 240-2227-ND  - KIT EMI FERRITE BEAD CHIP SMD; Other Names: 240-2399-1; Supplier 1: Digi-Key; Stock 1: 529301; Pricing 1: 1=0.17, 10=0.141, 25=0.1096, 50=0.0908, 100=0.0783, 250=0.0626, 500=0.0563, 1000=0.047 (USD); Standard Package: 1; Category: Filters; Family: Ferrite Beads and Chips; Series: HZ; Packaging: Cut Tape (CT); Ratings: -; Operating Temperature: -40°C ~ 125°C; Package / Case: 0805 (2012 Metric); Mounting Type: Surface Mount; Height (Max): 0.043" (1.10mm); Size / Dimension: 0.079" L x 0.049" W (2.00mm x 1.25mm); ComponentLink1URL: http://www.farnell.com/datasheets/1685710.pdf?src-supplier=Element14; ComponentLink1Description: http://www.farnell.com/datasheets/1685710.pdf?src-supplier=Element14; ComponentLink2URL: https://assets.lairdtech.com/home/brandworld/files/HZ0805E601R-10.pdf?src-supplier=Digi-Key; ComponentLink2Description: https://assets.lairdtech.com/home/brandworld/files/HZ0805E601R-10.pdf?src-supplier=Digi-Key; ComponentLink3URL: http://lairdtech.thomasnet.com/Asset/HZ0805E601R-10-A-VP.pdf?src-supplier=Avnet; ComponentLink3Description: http://lairdtech.thomasnet.com/Asset/HZ0805E601R-10-A-VP.pdf?src-supplier=Avnet; ComponentLink4URL: https://www.alliedelec.com/m/d/63159f83fbe70e1160794b0cc8ac128f.pdf?src-supplier=Allied+Electronics; ComponentLink4Description: https://www.alliedelec.com/m/d/63159f83fbe70e1160794b0cc8ac128f.pdf?src-supplier=Allied+Electronics; Supplier Part Number 1: 240-2399-1-ND
footprint R0805
pins: 1, 2

## INA199A1DCKR
designator U?  Manufacturer Part Number: INA199A1DCKR  (hidden comment: *)
IC OPAMP CURR SENSE 14KHZ SC70-6; Manufacturer: Texas Instruments; Amplifier Type: Current Sense; Number of Circuits: 1; Slew Rate: 0.4 V/µs; Current - Input Bias: 28µA; Voltage - Input Offset: 5µV; Current - Supply: 65µA; Voltage - Supply, Single/Dual (±): 2.7 V ~ 26 V; Other Names: 296-27329-6; Supplier 1: Digi-Key; Stock 1: 158615; Pricing 1: 1=0.83, 10=0.738, 25=0.7, 100=0.5375, 250=0.475, 500=0.45, 1000=0.35 (USD); Standard Package: 1; Category: Integrated Circuits (ICs); Family: Linear - Amplifiers - Instrumentation, OP Amps, Buffer Amps; Series: -; Output Type: -; Gain Bandwidth Product: 14kHz; -3db Bandwidth: -; Current - Output / Channel: -; Operating Temperature: -40°C ~ 105°C; Mounting Type: Surface Mount; Package / Case: 6-TSSOP, SC-88, SOT-363; Supplier Device Package: SC-70-6; Packaging: Digi-Reel®; Dynamic Catalog: Current Sense; ComponentLink1URL: http://components.arrow.com/part/dataview/48823731S9057778N7713?src-supplier=Arrow; ComponentLink1Description: http://components.arrow.com/part/dataview/48823731S9057778N7713?src-supplier=Arrow; ComponentLink2URL: https://www.verical.com/server-webapp/html/getDatasheet?partID=518602&src-supplier=Verical; ComponentLink2Description: https://www.verical.com/server-webapp/html/getDatasheet?partID=518602&src-supplier=Verical; ComponentLink3URL: http://components.arrow.com/part/dataview/0323_01815168?src-supplier=Arrow+Europe; ComponentLink3Description: http://components.arrow.com/part/dataview/0323_01815168?src-supplier=Arrow+Europe; ComponentLink4URL: http://www.farnell.com/datasheets/2019159.pdf?src-supplier=Element14; ComponentLink4Description: http://www.farnell.com/datasheets/2019159.pdf?src-supplier=Element14; ComponentLink5URL: http://www.ti.com/general/docs/lit/getliterature.tsp?genericPartNumber=INA199&fileType=pdf&src-supplier=Farnell; ComponentLink5Description: http://www.ti.com/general/docs/lit/getliterature.tsp?genericPartNumber=INA199&fileType=pdf&src-supplier=Farnell; ComponentLink6URL: http://focus.ti.com/lit/ds/symlink/ina199a2.pdf?src-supplier=Avnet+Europe; ComponentLink6Description: http://focus.ti.com/lit/ds/symlink/ina199a2.pdf?src-supplier=Avnet+Europe; ComponentLink7URL: http://www.farnell.com/datasheets/1846955.pdf?src-supplier=Farnell; ComponentLink7Description: http://www.farnell.com/datasheets/1846955.pdf?src-supplier=Farnell; ComponentLink8URL: http://www.ti.com/lit/ds/symlink/ina199.pdf?src-supplier=Digi-Key; ComponentLink8Description: http://www.ti.com/lit/ds/symlink/ina199.pdf?src-supplier=Digi-Key; ComponentLink9URL: http://www.ti.com/lit/gpn/ina199?src-supplier=Mouser; ComponentLink9Description: http://www.ti.com/lit/gpn/ina199?src-supplier=Mouser; ComponentLink10URL: http://www.ti.com/general/docs/lit/getliterature.tsp?genericPartNumber=INA199&&fileType=pdf&src-supplier=Avnet; ComponentLink10Description: http://www.ti.com/general/docs/lit/getliterature.tsp?genericPartNumber=INA199&&fileType=pdf&src-supplier=Avnet; Supplier Part Number 1: 296-27329-1-ND
footprint SOT-363
pins: 1 Ref, 2 Vee, 3 Vcc, 4 +, 5 -, 6 OUT

## IRF8910
designator Q?  (value not drawn)
MOSFET 2N-CH 20V 10A 8-SOIC; Manufacturer: International Rectifier; Manufacturer Part Number: IRF8910; Supplier 1: Digi-Key; Stock 1: 0; Pricing 1: 1=0.85, 10=0.763, 25=0.7248, 100=0.5435, 250=0.5383, 500=0.4607, 1000=0.3753 (USD); ComponentLink1URL: http://datasheet.iiic.cc/international_rectifier/IRF8910.pdf?src-supplier=IIIC; ComponentLink1Description: http://datasheet.iiic.cc/international_rectifier/IRF8910.pdf?src-supplier=IIIC; Supplier Part Number 1: IRF8910PBFCT-ND
footprint 8-SOIC
part A pins: 1 S1, 2 G1, 7 D1, 8 D1
part B pins: 3 S2, 4 G2, 5 D2, 6 D2

## LMZ22005TZX/NOPB
designator U?  Manufacturer Part Number: LMZ22005TZX/NOPB  (hidden comment: *)
DC DC CONVERTER 0.8-6V; Manufacturer: TI National Semiconductor; Output Power: 30W; Number of Outputs: 1; Output Current: 5A; Screening Level: Automotive; Product Length (mm): 10.16mm; Product Height (mm): 4.57mm; Product Depth (mm): Surface Mount; Supplier 1: Digi-Key; Stock 1: 1814; Pricing 1: 1=9.19, 5=9.124, 10=9.055, 25=8.9156, 50=8.637, 100=7.8012, 250=7.6619 (USD); Mounting Style: Surface Mount; Packaging: Tape and Reel; Operating Temperature (Min): -40C; Type: Step Down; Pin Count: Tape and Reel; Package / Case: -40C; Operating Temperature (Max): 125C; ComponentLink1URL: http://www.ti.com/lit/ds/symlink/lmz22005.pdf?src-supplier=Digi-Key; ComponentLink1Description: http://www.ti.com/lit/ds/symlink/lmz22005.pdf?src-supplier=Digi-Key; Supplier Part Number 1: 296-43603-1-ND
footprint TO-PMOD-7
pins: 1 VIN, 2 SYNC, 3 EN, 4 AGND, 5 FB, 6 SS/TRK, 7 VOUT, 8 PGND

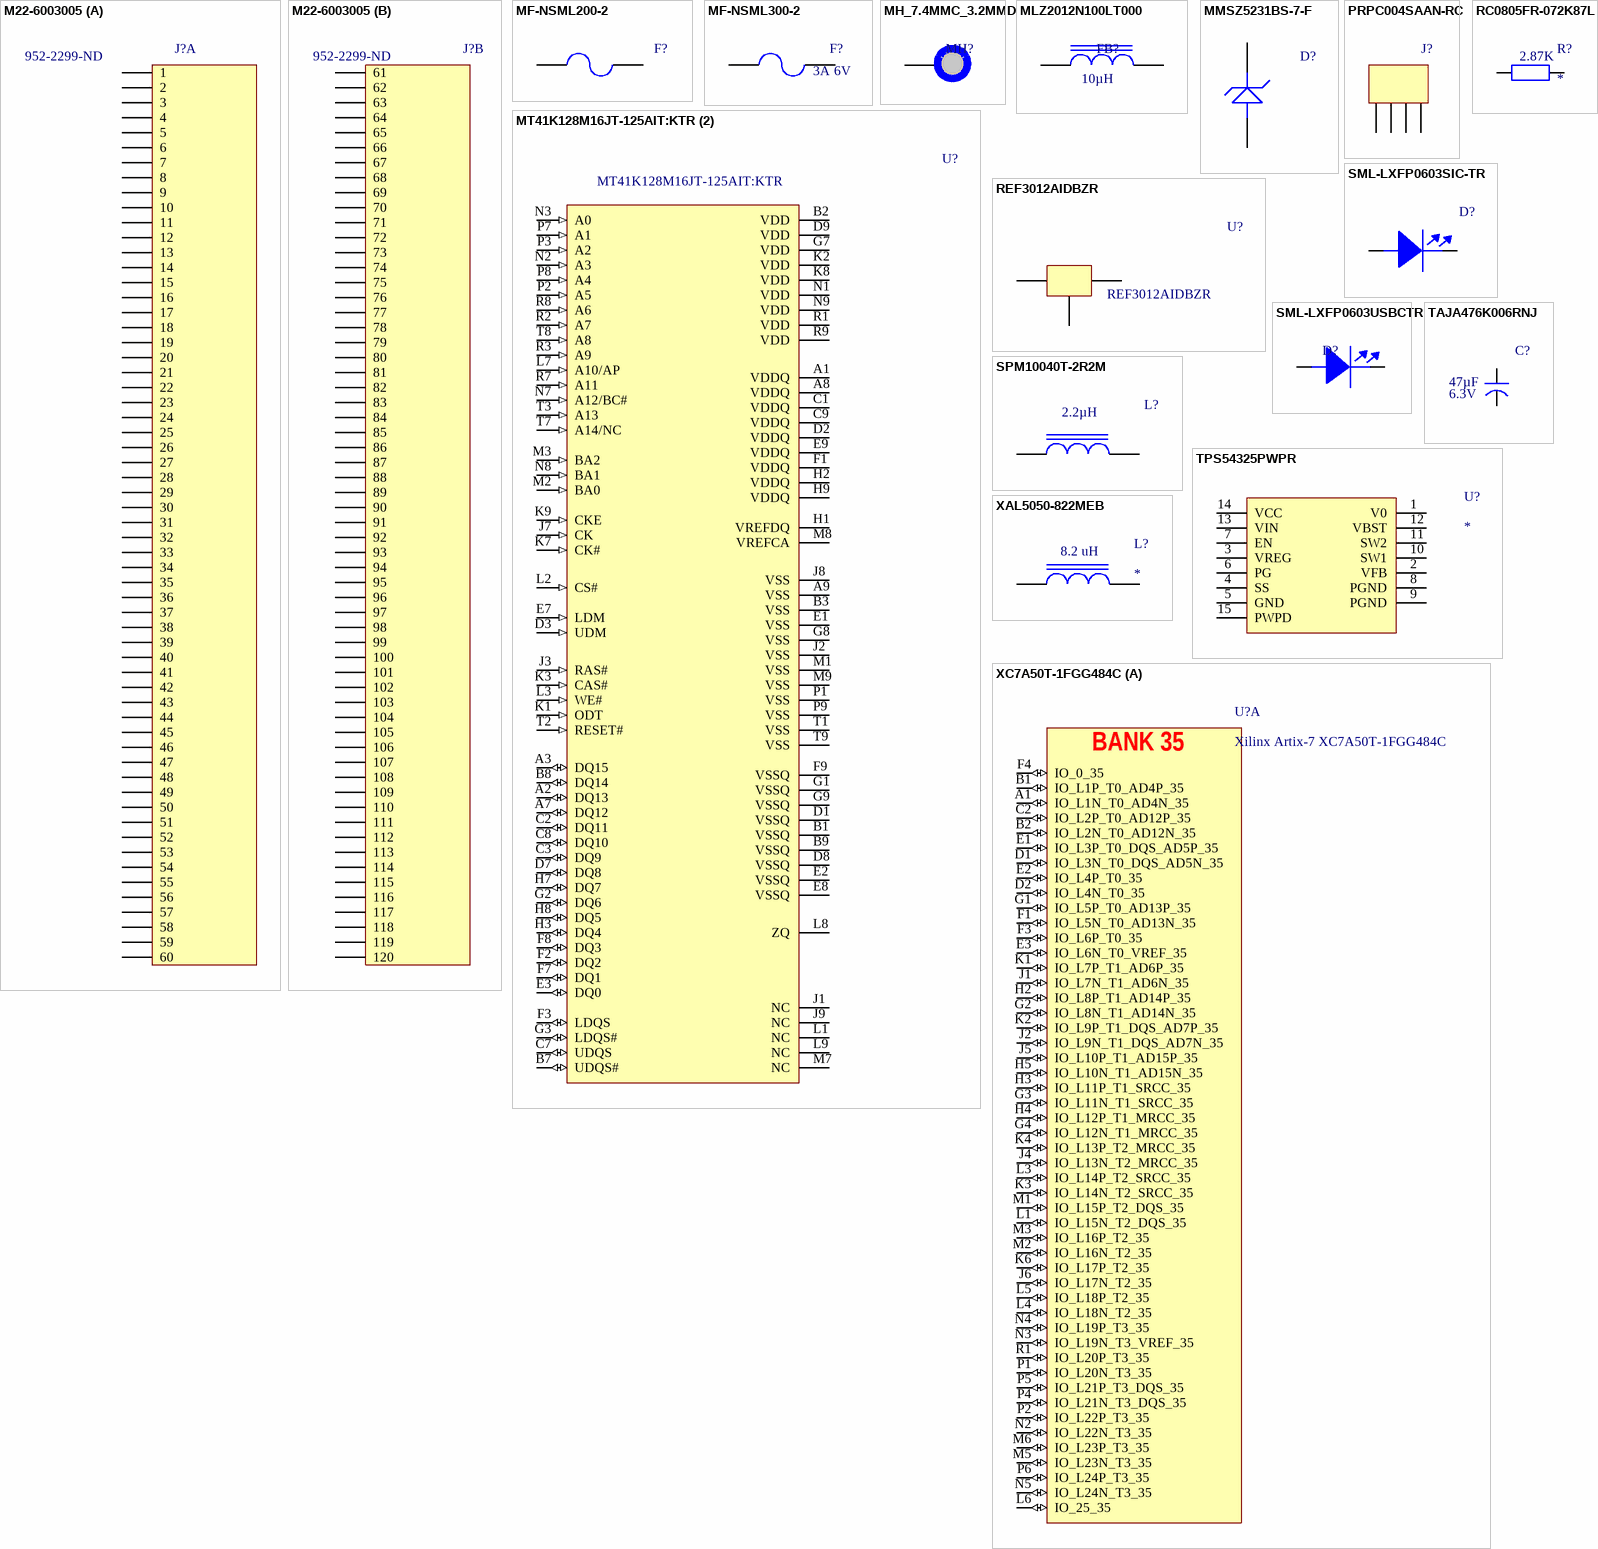
[diagram p3: symbols M22-6003005 to XC7A50T-1FGG484C]